# Altium footprint library EG4S20NG88.PcbLib: 1 footprints
Each footprint in its own frame and in the unit in brackets; x right, y up, seen from the top. Pads: shape width x height; smd on the part's side, far side on the other; paste and mask are expansions set on the pad; w line width, h text height; cw(c..) or ccw(c..) is an arc to the next point about the centre after c.
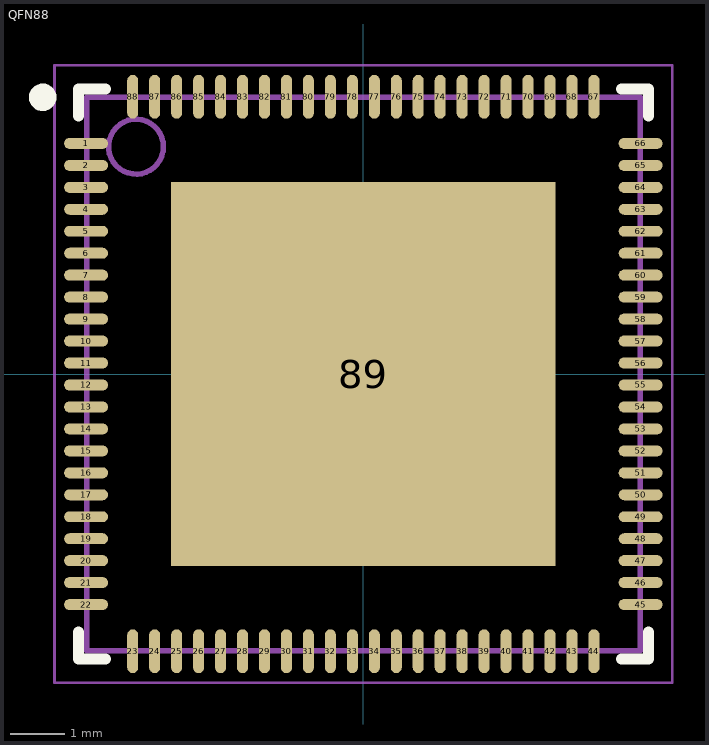
[diagram p0: the footprint, top view; thin cyan lines are the x and y axes]

## QFN88 [mm] "QFN, 88-Leads, Body 10.00x10.00mm, Pitch 0.40mm, Thermal Pad 7.00x7.00mm, IPC Medium Density"
height 0.8
pads (89):
  oval 0.8x0.2 smd: 1(-5.05,4.2) 2(-5.05,3.8) 3(-5.05,3.4) 4(-5.05,3) 5(-5.05,2.6) 6(-5.05,2.2) 7(-5.05,1.8) 8(-5.05,1.4) 9(-5.05,1) 10(-5.05,0.6) 11(-5.05,0.2) 12(-5.05,-0.2) 13(-5.05,-0.6) 14(-5.05,-1) 15(-5.05,-1.4) 16(-5.05,-1.8) 17(-5.05,-2.2) 18(-5.05,-2.6) 19(-5.05,-3) 20(-5.05,-3.4) 21(-5.05,-3.8) 22(-5.05,-4.2) 45(5.05,-4.2) 46(5.05,-3.8) 47(5.05,-3.4) 48(5.05,-3) 49(5.05,-2.6) 50(5.05,-2.2) 51(5.05,-1.8) 52(5.05,-1.4) 53(5.05,-1) 54(5.05,-0.6) 55(5.05,-0.2) 56(5.05,0.2) 57(5.05,0.6) 58(5.05,1) 59(5.05,1.4) 60(5.05,1.8) 61(5.05,2.2) 62(5.05,2.6) 63(5.05,3) 64(5.05,3.4) 65(5.05,3.8) 66(5.05,4.2)
  oval 0.2x0.8 smd: 23(-4.2,-5.05) 24(-3.8,-5.05) 25(-3.4,-5.05) 26(-3,-5.05) 27(-2.6,-5.05) 28(-2.2,-5.05) 29(-1.8,-5.05) 30(-1.4,-5.05) 31(-1,-5.05) 32(-0.6,-5.05) 33(-0.2,-5.05) 34(0.2,-5.05) 35(0.6,-5.05) 36(1,-5.05) 37(1.4,-5.05) 38(1.8,-5.05) 39(2.2,-5.05) 40(2.6,-5.05) 41(3,-5.05) 42(3.4,-5.05) 43(3.8,-5.05) 44(4.2,-5.05) 67(4.2,5.05) 68(3.8,5.05) 69(3.4,5.05) 70(3,5.05) 71(2.6,5.05) 72(2.2,5.05) 73(1.8,5.05) 74(1.4,5.05) 75(1,5.05) 76(0.6,5.05) 77(0.2,5.05) 78(-0.2,5.05) 79(-0.6,5.05) 80(-1,5.05) 81(-1.4,5.05) 82(-1.8,5.05) 83(-2.2,5.05) 84(-2.6,5.05) 85(-3,5.05) 86(-3.4,5.05) 87(-3.8,5.05) 88(-4.2,5.05)
  rect 7x7 smd: 89(0,0)
Top Overlay:
  circle w0.25: c-5.84,5.04 r0.125
  lines w0.2: -5.19,-4.7 -5.19,-5.19 -4.7,-5.19 ; -5.19,4.7 -5.19,5.19 -4.7,5.19 ; 4.7,-5.19 5.19,-5.19 5.19,-4.7 ; 4.7,5.19 5.19,5.19 5.19,4.7
Mechanical 13:
  circle w0.1: c-4.14,4.14 r0.5
  lines w0.1: -5.04,-5.04 -5.04,5.04 5.04,5.04 5.04,-5.04 -5.04,-5.04
Mechanical 15:
  lines w0.05: -5.625,-5.625 -5.625,5.625 5.625,5.625 5.625,-5.625 -5.625,-5.625
  lines w0.1: -0.5,0 0.5,0 ; 0,-0.5 0,0.5
3D body: height 0.8, standoff 0.05, extent -5.04,-5.04 5.04,5.04